# EAGLE library part ADP3120A (library nonolith)
Dual Bootstrapped, 12 V MOSFET Driver with Output Disable
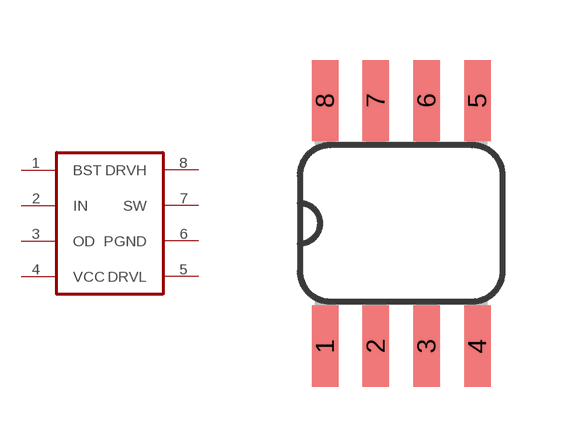
[diagram p22: symbol with the pads of SO-08; footprint SO-08]

Designator prefix -

## ADP3120A  [SO-08]
1  BST
2  IN
3  OD
4  VCC
5  DRVL
6  PGND
7  SW
8  DRVH

## Footprint SO-08 (pad centres in mm)
smd 0.66 x 2.032: 1 -1.905,-3.073; 2 -0.635,-3.073; 3 0.635,-3.073; 4 1.905,-3.073; 5 1.905,3.073; 6 0.635,3.073; 7 -0.635,3.073; 8 -1.905,3.073